# Altium footprint library RES_ARRAY0502_SINGLE.PcbLib: 1 footprints
Each footprint in its own frame and in the unit in brackets; x right, y up, seen from the top. Pads: shape width x height; smd on the part's side, far side on the other; paste and mask are expansions set on the pad; w line width, h text height; cw(c..) or ccw(c..) is an arc to the next point about the centre after c.
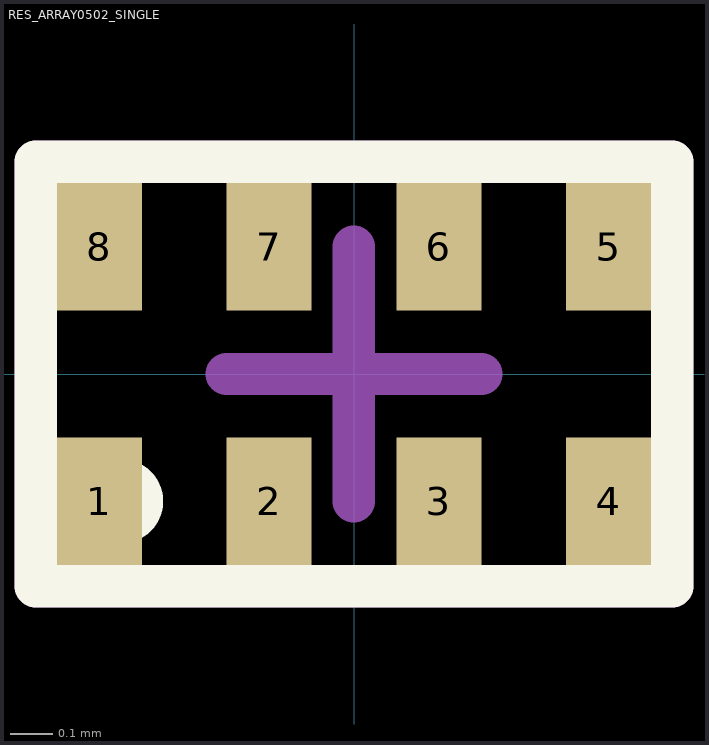
[diagram p0: the footprint, top view; thin cyan lines are the x and y axes]

## RES_ARRAY0502_SINGLE [mm]
pads (8):
  rect 0.2x0.3 smd mask+0.05: 1(-0.6,-0.3) 2(-0.2,-0.3) 3(0.2,-0.3) 4(0.6,-0.3) 5(0.6,0.3) 6(0.2,0.3) 7(-0.2,0.3) 8(-0.6,0.3)
Top Overlay:
  circle w0.1: c-0.55,-0.3 r0.05
  lines w0.1: -0.75,-0.5 0.75,-0.5 0.75,0.5 -0.75,0.5 -0.75,-0.5
Mechanical 15:
  lines w0.1: -0.3,0 0.3,0 ; 0,-0.3 0,0.3 ; -0.75,-0.5 0.75,-0.5 0.75,0.5 -0.75,0.5 -0.75,-0.5
3D body: height 0.35, standoff 0.01, extent -0.7,-0.3 0.7,0.3